# EAGLE library part ARDUINO_PRO_MINI (library MyDuino)
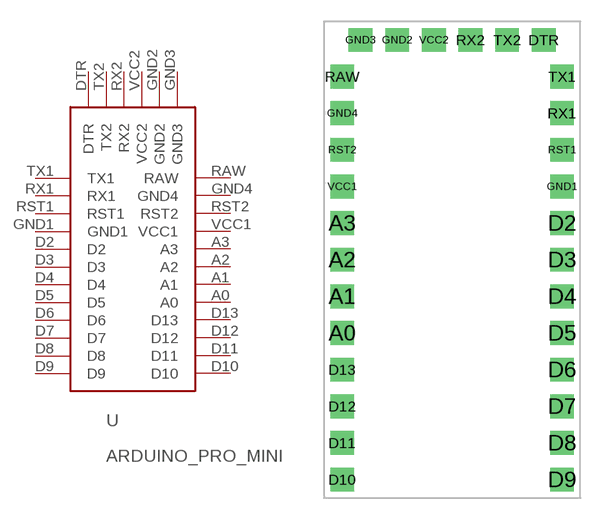
[diagram p4: symbol with the pads of ARDUINO_PRO_MINI; footprint ARDUINO_PRO_MINI]

Designator prefix -

## ARDUINO_PRO_MINI  [ARDUINO_PRO_MINI]
A0  A0
A1  A1
A2  A2
A3  A3
D2  D2
D3  D3
D4  D4
D5  D5
D6  D6
D7  D7
D8  D8
D9  D9
D10  D10
D11  D11
D12  D12
D13  D13
DTR  DTR
GND1  GND1
GND2  GND2
GND3  GND3
GND4  GND4
RAW  RAW
RST1  RST1
RST2  RST2
RX1  RX1
RX2  RX2
TX1  TX1
TX2  TX2
VCC1  VCC1
VCC2  VCC2

## Footprint ARDUINO_PRO_MINI (pad centres in mm)
drill 1.1 square: A0 -7.62,-6.35; A1 -7.62,-3.81; A2 -7.62,-1.27; A3 -7.62,1.27; D2 7.62,1.27; D3 7.62,-1.27; D4 7.62,-3.81; D5 7.62,-6.35; D6 7.62,-8.89; D7 7.62,-11.43; D8 7.62,-13.97; D9 7.62,-16.51; D10 -7.62,-16.51; D11 -7.62,-13.97; D12 -7.62,-11.43; D13 -7.62,-8.89; DTR 6.35,13.97; GND1 7.62,3.81; GND2 -3.81,13.97; GND3 -6.35,13.97; GND4 -7.62,8.89; RAW -7.62,11.43; RST1 7.62,6.35; RST2 -7.62,6.35; RX1 7.62,8.89; RX2 1.27,13.97; TX1 7.62,11.43; TX2 3.81,13.97; VCC1 -7.62,3.81; VCC2 -1.27,13.97